# Altium schematic symbol library lib.SchLib: 6 symbols
Pins are listed as number, name and electrical type; pins without a type are passive.

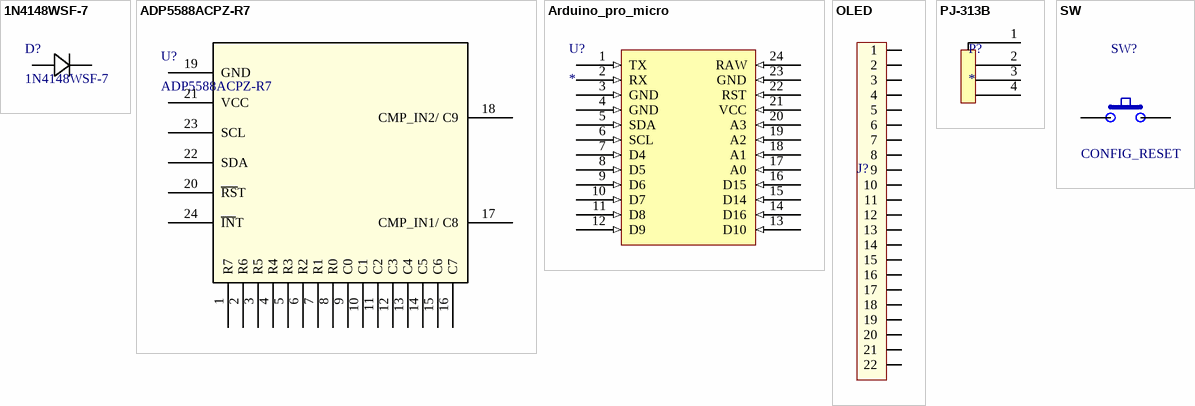
[diagram p0: symbols 1N4148WSF-7 to SW]

## 1N4148WSF-7
designator D?
No Description Available; Mfr_Name: Diodes Inc; Type: DEV; Copyright: Copyright (C) 2021 Ultra Librarian. All rights reserved.; Manufacturer_Part_Number: 1N4148WSF-7; Digi-Key_Part_Number_1: 1N4148WSF-7DI-ND; Digi-Key_Part_Number_2: 1N4148WSF-7DICT-ND; Digi-Key_Part_Number_3: 1N4148WSF-7DIDKR-ND; Digi-Key_Part_Number_4: 1N4148WSF-7DITR-ND; RefDes: RefDes
footprint SOD323F_DIO
pins: 1, 2

## ADP5588ACPZ-R7
designator U?
No Description Available; Vendor: Analog Devices Inc; Built_By: EMA_UL_Team; SourceLibrary: Analog_2012-01-01_8; Manufacturer_Part_Number: ADP5588ACPZ-R7; Copyright: Copyright (C) 2021 Accelerated Designs. All rights reserved; RefDes: RefDes; Type: DEV
footprint CP_24_1_ADI
pins: 1 R7, 2 R6, 3 R5, 4 R4, 5 R3, 6 R2, 7 R1, 8 R0, 9 C0, 10 C1, 11 C2, 12 C3, 13 C4, 14 C5, 15 C6, 16 C7, 17 CMP_IN1/ C8, 18 CMP_IN2/ C9, 19 GND, 20 ~{RS}T, 21 VCC (power), 22 SDA, 23 SCL, 24 ~{IN}T

## Arduino_pro_micro
designator U?
footprint Arduino_pro_micro
pins: 1 TX (in), 2 RX (in), 3 GND (in), 4 GND (in), 5 SDA (in), 6 SCL (in), 7 D4 (in), 8 D5 (in), 9 D6 (in), 10 D7 (in), 11 D8 (in), 12 D9 (in), 13 D10 (in), 14 D16 (in), 15 D14 (in), 16 D15 (in), 17 A0 (in), 18 A1 (in), 19 A2 (in), 20 A3 (in), 21 VCC (in), 22 RST (in), 23 GND (in), 24 RAW (in)

## OLED
designator J?
Value: Connector 8
footprint OLED
pins: 1, 2, 3, 4, 5, 6, 7, 8, 9, 10, 11, 12, 13, 14, 15, 16, 17, 18, 19, 20, 21, 22

## PJ-313B
designator P?
footprint pj-313b6-x
pins: 1, 2, 3, 4

## SW
designator SW?, comment CONFIG_RESET
footprint cherry_sw
pins: 1, 2